# EAGLE library part USB_MICROB (library ftdi_ft231xq-r)
This is the hirose ZX62-B-5PA(11) MICRO-USB B Type female connection.
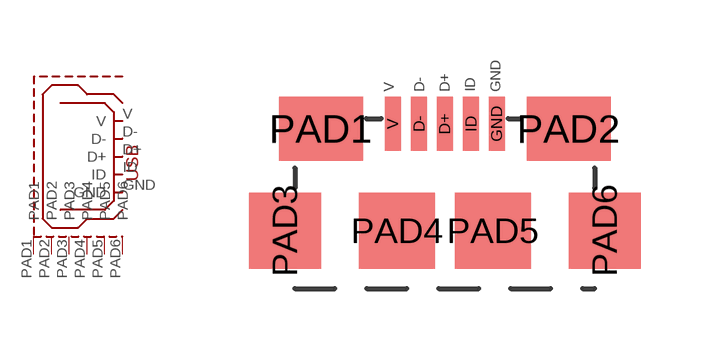
[diagram p4: symbol with the pads of USB_MICROB_PACKAGE; footprint USB_MICROB_PACKAGE]

Designator prefix -

## USB_MICROB  [USB_MICROB_PACKAGE]
D+  D+
D-  D-
GND  GND
ID  ID
PAD1  PAD1
PAD2  PAD2
PAD3  PAD3
PAD4  PAD4
PAD5  PAD5
PAD6  PAD6
V  V

## Footprint USB_MICROB_PACKAGE (pad centres in mm)
This is the hirose ZX62-B-5PA(11) MICRO-USB B Type female connection.
smd 0.4 x 1.35: D+ 0,-0.68; D- -0.64,-0.68; GND 1.3,-0.68; ID 0.66,-0.68; V -1.3,-0.68
smd 2.1 x 1.6: PAD1 -3.1,-0.8; PAD2 3.1,-0.8
smd 1.8 x 1.9: PAD3 -4,-3.35; PAD6 4,-3.35
smd 1.9 x 1.9: PAD4 -1.2,-3.35; PAD5 1.2,-3.35